# EAGLE library part STM32F407_144 (library wicker)
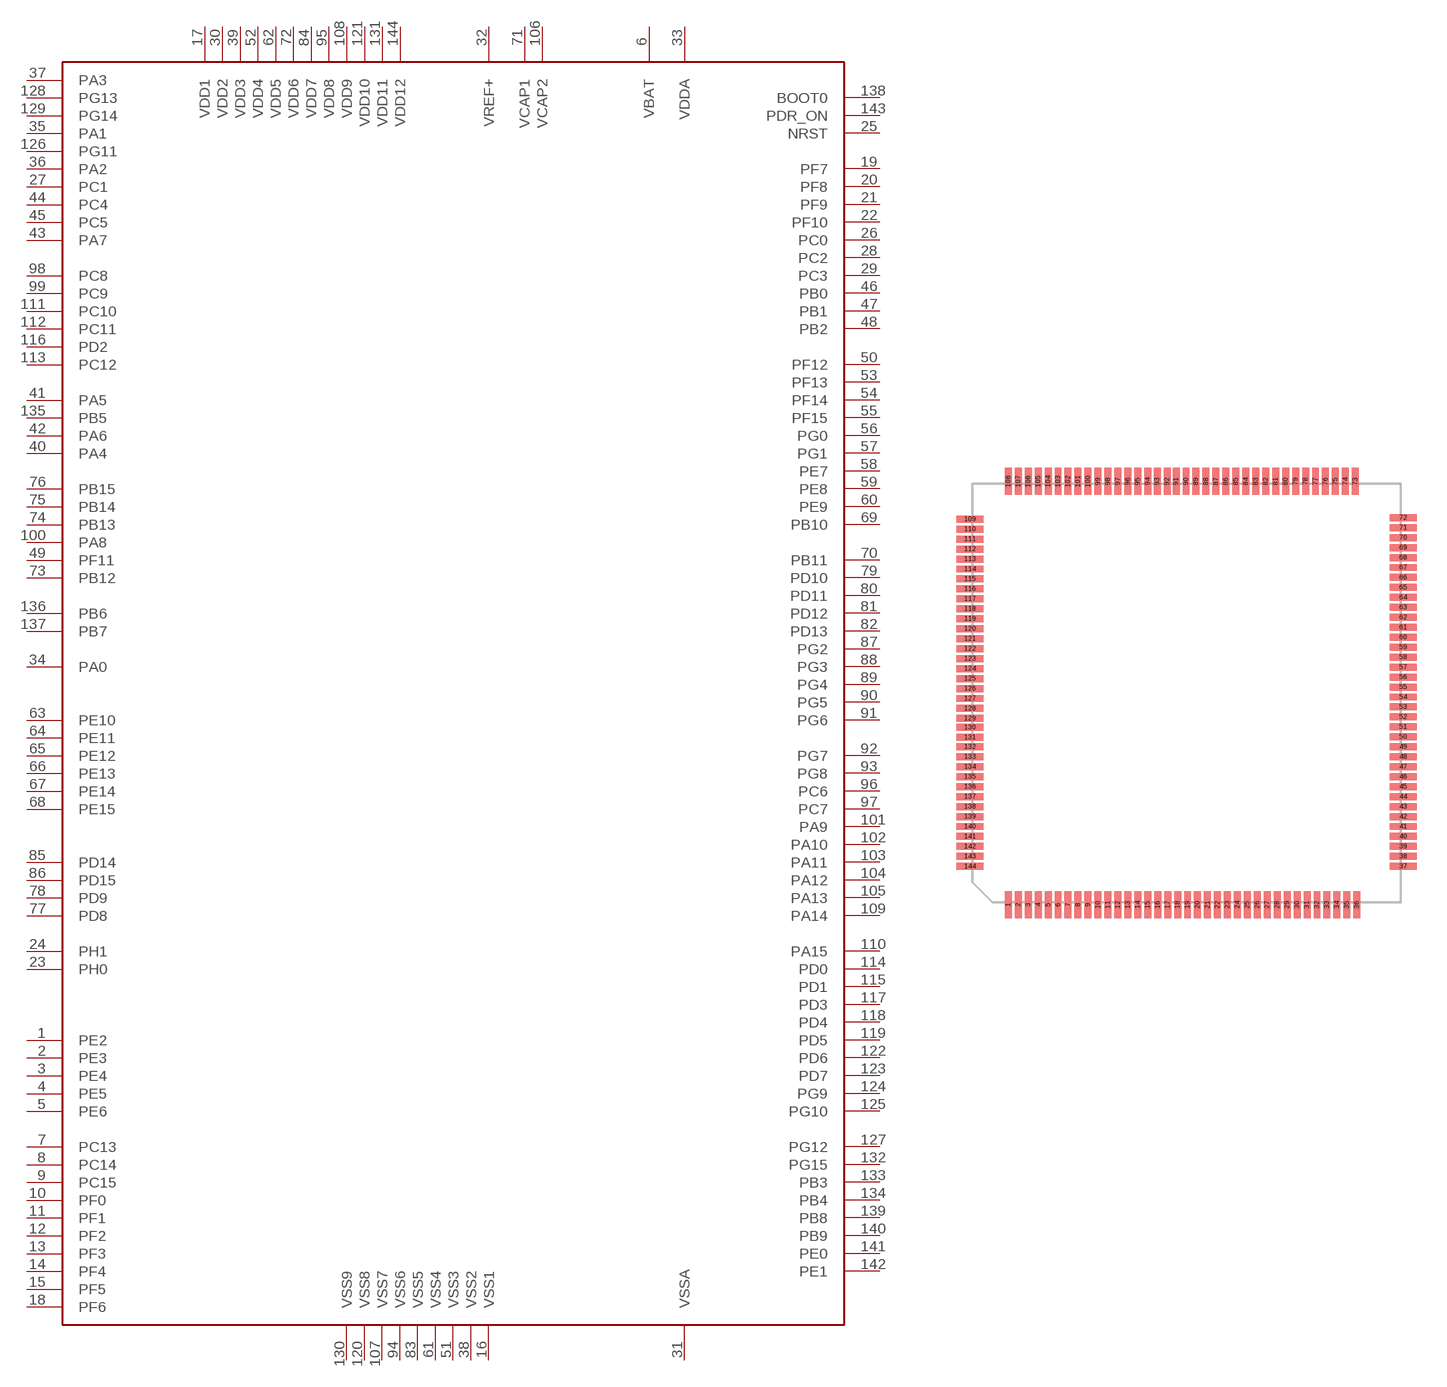
[diagram p3: symbol with the pads of LQFP144; footprint LQFP144]

Designator prefix -

## STM32F407_144  [LQFP144]
1  PE2
2  PE3
3  PE4
4  PE5
5  PE6
6  VBAT
7  PC13
8  PC14
9  PC15
10  PF0
11  PF1
12  PF2
13  PF3
14  PF4
15  PF5
16  VSS1
17  VDD1
18  PF6
19  PF7
20  PF8
21  PF9
22  PF10
23  PH0
24  PH1
25  NRST
26  PC0
27  PC1
28  PC2
29  PC3
30  VDD2
31  VSSA
32  VREF+
33  VDDA
34  PA0
35  PA1
36  PA2
37  PA3
38  VSS2
39  VDD3
40  PA4
41  PA5
42  PA6
43  PA7
44  PC4
45  PC5
46  PB0
47  PB1
48  PB2
49  PF11
50  PF12
51  VSS3
52  VDD4
53  PF13
54  PF14
55  PF15
56  PG0
57  PG1
58  PE7
59  PE8
60  PE9
61  VSS4
62  VDD5
63  PE10
64  PE11
65  PE12
66  PE13
67  PE14
68  PE15
69  PB10
70  PB11
71  VCAP1
72  VDD6
73  PB12
74  PB13
75  PB14
76  PB15
77  PD8
78  PD9
79  PD10
80  PD11
81  PD12
82  PD13
83  VSS5
84  VDD7
85  PD14
86  PD15
87  PG2
88  PG3
89  PG4
90  PG5
91  PG6
92  PG7
93  PG8
94  VSS6
95  VDD8
96  PC6
97  PC7
98  PC8
99  PC9
100  PA8
101  PA9
102  PA10
103  PA11
104  PA12
105  PA13
106  VCAP2
107  VSS7
108  VDD9
109  PA14
110  PA15
111  PC10
112  PC11
113  PC12
114  PD0
115  PD1
116  PD2
117  PD3
118  PD4
119  PD5
120  VSS8
121  VDD10
122  PD6
123  PD7
124  PG9
125  PG10
126  PG11
127  PG12
128  PG13
129  PG14
130  VSS9
131  VDD11
132  PG15
133  PB3
134  PB4
135  PB5
136  PB6
137  PB7
138  BOOT0
139  PB8
140  PB9
141  PE0
142  PE1
143  PDR_ON
144  VDD12

## Footprint LQFP144 (pad centres in mm)
smd 0.35 x 1.35: 1 -9.2,-10.625; 2 -8.7,-10.625; 3 -8.2,-10.625; 4 -7.7,-10.625; 5 -7.2,-10.625; 6 -6.7,-10.625; 7 -6.2,-10.625; 8 -5.7,-10.625; 9 -5.2,-10.625; 10 -4.7,-10.625; 11 -4.2,-10.625; 12 -3.7,-10.625; 13 -3.2,-10.625; 14 -2.7,-10.625; 15 -2.2,-10.625; 16 -1.7,-10.625; 17 -1.2,-10.625; 18 -0.7,-10.625; 19 -0.2,-10.625; 20 0.3,-10.625; 21 0.8,-10.625; 22 1.3,-10.625; 23 1.8,-10.625; 24 2.3,-10.625; 25 2.8,-10.625; 26 3.3,-10.625; 27 3.8,-10.625; 28 4.3,-10.625; 29 4.8,-10.625; 30 5.3,-10.625; 31 5.8,-10.625; 32 6.3,-10.625; 33 6.8,-10.625; 34 7.3,-10.625; 35 7.8,-10.625; 36 8.3,-10.625; 73 8.225,10.625; 74 7.725,10.625; 75 7.225,10.625; 76 6.725,10.625; 77 6.225,10.625; 78 5.725,10.625; 79 5.225,10.625; 80 4.725,10.625; 81 4.225,10.625; 82 3.725,10.625; 83 3.225,10.625; 84 2.725,10.625; 85 2.225,10.625; 86 1.725,10.625; 87 1.225,10.625; 88 0.725,10.625; 89 0.225,10.625; 90 -0.275,10.625; 91 -0.775,10.625; 92 -1.225,10.625; 93 -1.725,10.625; 94 -2.2,10.625; 95 -2.7,10.625; 96 -3.2,10.625; 97 -3.7,10.625; 98 -4.2,10.625; 99 -4.7,10.625; 100 -5.2,10.625; 101 -5.7,10.625; 102 -6.2,10.625; 103 -6.7,10.625; 104 -7.2,10.625; 105 -7.7,10.625; 106 -8.2,10.625; 107 -8.7,10.625; 108 -9.2,10.625
smd 1.35 x 0.35: 37 10.625,-8.7; 38 10.625,-8.2; 39 10.625,-7.7; 40 10.625,-7.2; 41 10.625,-6.7; 42 10.625,-6.2; 43 10.625,-5.7; 44 10.625,-5.2; 45 10.625,-4.7; 46 10.625,-4.2; 47 10.625,-3.7; 48 10.625,-3.2; 49 10.625,-2.7; 50 10.625,-2.2; 51 10.625,-1.7; 52 10.625,-1.2; 53 10.625,-0.7; 54 10.625,-0.2; 55 10.625,0.3; 56 10.625,0.8; 57 10.625,1.3; 58 10.625,1.8; 59 10.625,2.3; 60 10.625,2.8; 61 10.625,3.3; 62 10.625,3.8; 63 10.625,4.3; 64 10.625,4.8; 65 10.625,5.3; 66 10.625,5.8; 67 10.625,6.3; 68 10.625,6.8; 69 10.625,7.3; 70 10.625,7.8; 71 10.625,8.3; 72 10.625,8.8; 109 -11.125,8.725; 110 -11.125,8.225; 111 -11.125,7.725; 112 -11.125,7.225; 113 -11.125,6.725; 114 -11.125,6.225; 115 -11.125,5.725; 116 -11.125,5.225; 117 -11.125,4.725; 118 -11.125,4.225; 119 -11.125,3.725; 120 -11.125,3.225; 121 -11.125,2.725; 122 -11.125,2.225; 123 -11.125,1.725; 124 -11.125,1.225; 125 -11.125,0.725; 126 -11.125,0.225; 127 -11.125,-0.275; 128 -11.125,-0.775; 129 -11.125,-1.275; 130 -11.125,-1.725; 131 -11.125,-2.225; 132 -11.125,-2.7; 133 -11.125,-3.2; 134 -11.125,-3.7; 135 -11.125,-4.2; 136 -11.125,-4.7; 137 -11.125,-5.2; 138 -11.125,-5.7; 139 -11.125,-6.2; 140 -11.125,-6.7; 141 -11.125,-7.2; 142 -11.125,-7.7; 143 -11.125,-8.2; 144 -11.125,-8.7